# Altium schematic symbol library TLV9001SIDCKR.SchLib: 1 symbol
Pins are listed as number, name and electrical type; pins without a type are passive.

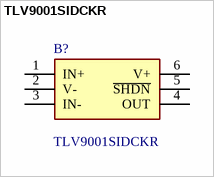
[diagram p0: symbol TLV9001SIDCKR]

## TLV9001SIDCKR
designator B?
Operational Amplifiers - Op Amps 1-Channel, 1MHz, RRIO, 1.8V to 5.5V Operational Amplifier for Cost-Optimized Systems 6-SC70 -40 to 125; Manufacturer_Name: Texas Instruments; Geometry.Height: 1.1mm; Manufacturer_Part_Number: TLV9001SIDCKR; Mouser Part Number: 595-TLV9001SIDCKR; Mouser Price/Stock: https://www.mouser.co.uk/ProductDetail/Texas-Instruments/TLV9001SIDCKR?qs=OlC7AqGiEDm%252BHGQGq0Yv1w%3D%3D; Arrow Part Number: TLV9001SIDCKR; Arrow Price/Stock: https://www.arrow.com/en/products/tlv9001sidckr/texas-instruments?region=nac; Mouser Testing Part Number: *; Mouser Testing Price/Stock: *; Datasheet Link: https://www.ti.com/lit/ds/symlink/tlv9001.pdf?&ts=1589463649736
footprint SOT65P210X110-6N
pins: 1 IN+, 2 V-, 3 IN-, 4 OUT, 5 ~{SHDN}, 6 V+